# EAGLE library part ESP3212 (library esp32_smd)
Ai-Thinker ESP3212 (Obsolete)
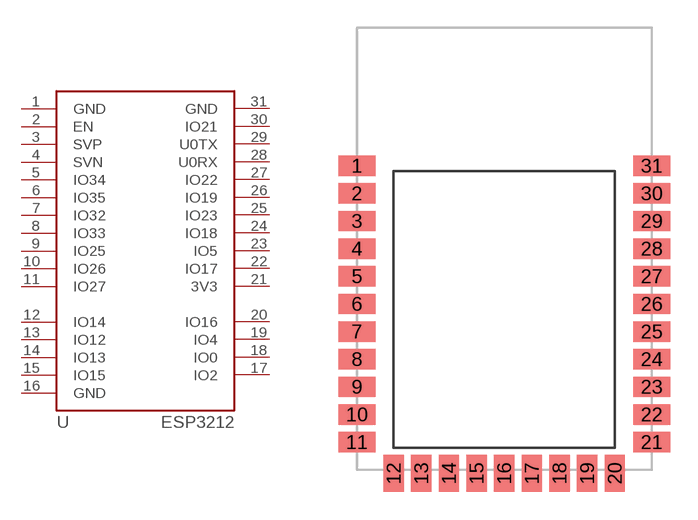
[diagram p0: symbol with the pads of ESP3212; footprint ESP3212]

Designator prefix U

## ESP3212  [ESP3212]
1  GND  pwr
2  EN  in
3  SVP
4  SVN
5  IO34
6  IO35
7  IO32
8  IO33
9  IO25
10  IO26
11  IO27
12  IO14
13  IO12
14  IO13
15  IO15
16  GND  pwr
17  IO2
18  IO0
19  IO4
20  IO16
21  3V3  pwr
22  IO17
23  IO5
24  IO18
25  IO23
26  IO19
27  IO22
28  U0RX
29  U0TX
30  IO21
31  GND  pwr

## Footprint ESP3212 (pad centres in mm)
smd 2 x 1.1: 1 -8,5.5; 2 -8,4; 3 -8,2.5; 4 -8,1; 5 -8,-0.5; 6 -8,-2; 7 -8,-3.5; 8 -8,-5; 9 -8,-6.5; 10 -8,-8; 11 -8,-9.5; 21 8,-9.5; 22 8,-8; 23 8,-6.5; 24 8,-5; 25 8,-3.5; 26 8,-2; 27 8,-0.5; 28 8,1; 29 8,2.5; 30 8,4; 31 8,5.5
smd 1.1 x 2: 12 -6,-11.2; 13 -4.5,-11.2; 14 -3,-11.2; 15 -1.5,-11.2; 16 0,-11.2; 17 1.5,-11.2; 18 3,-11.2; 19 4.5,-11.2; 20 6,-11.2